# Altium schematic symbol library XTAL 25MHZ 12PF SMD4.Schlib: 1 symbol
Pins are listed as number, name and electrical type; pins without a type are passive.

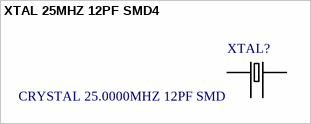
[diagram p0: symbol XTAL 25MHZ 12PF SMD4]

## XTAL 25MHZ 12PF SMD4
designator XTAL?, comment CRYSTAL 25.0000MHZ 12PF SMD
25MHz ±10ppm Crystal 12pF 40 Ohms 2-SMD, No Lead; MP: X322525MOB4SI; MF: Yangxing Tech; Package: 2-SMD, No Lead; Frequency: 25MHz; Supplier 1: Digi-Key
footprint 3225-4SMD (3225 4PIn Package)
pins: 1, 2, 3, 4